# EAGLE library part PINHD-2X6 (library mylibrary)
PIN HEADER
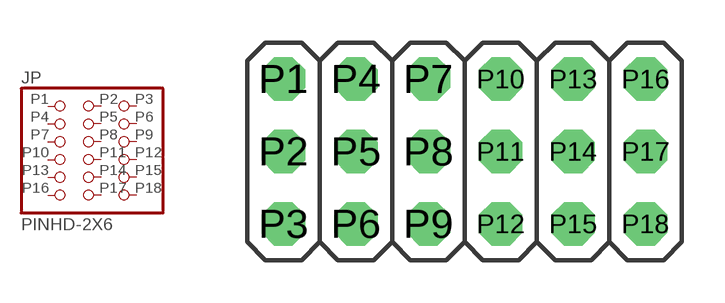
[diagram p1: symbol with the pads of 2X06; footprint 2X06]

Designator prefix JP

## PINHD-2X6  [2X06]
P1  P1  pas
P2  P2  pas
P3  P3  pas
P4  P4  pas
P5  P5  pas
P6  P6  pas
P7  P7  pas
P8  P8  pas
P9  P9  pas
P10  P10  pas
P11  P11  pas
P12  P12  pas
P13  P13  pas
P14  P14  pas
P15  P15  pas
P16  P16  pas
P17  P17  pas
P18  P18  pas

## Footprint 2X06 (pad centres in mm)
PIN HEADER
drill 1.016 octagon: P1 -6.35,1.27; P2 -6.35,-1.27; P3 -6.35,-3.81; P4 -3.81,1.27; P5 -3.81,-1.27; P6 -3.81,-3.81; P7 -1.27,1.27; P8 -1.27,-1.27; P9 -1.27,-3.81; P10 1.27,1.27; P11 1.27,-1.27; P12 1.27,-3.81; P13 3.81,1.27; P14 3.81,-1.27; P15 3.81,-3.81; P16 6.35,1.27; P17 6.35,-1.27; P18 6.35,-3.81